# Altium schematic symbol library CC2500.SchLib: 1 symbol
Pins are listed as number, name and electrical type; pins without a type are passive.

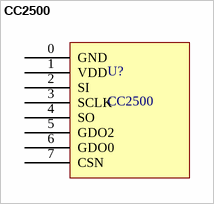
[diagram p0: symbol CC2500]

## CC2500
designator U?
footprint ESP-07S
pins: 0 GND (power), 1 VDD, 2 SI, 3 SCLK, 4 SO, 5 GDO2, 6 GDO0, 7 CSN